# EAGLE library part PCA9536D (library PCA9536D)
REMOTE 4-BIT I2C AND SMBus I/O EXPANDER WITH CONFIGURATION REGISTERS
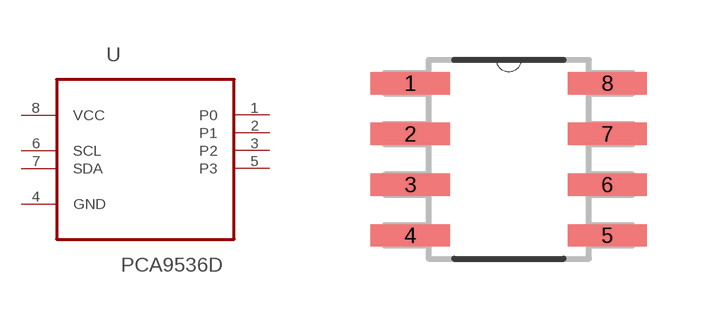
[diagram p0: symbol with the pads of SOIC127P600X175-8N; footprint SOIC127P600X175-8N]

Designator prefix U

## PCA9536D (Availability: Unavailable; Description: I/O Expander 4 I²C, SMBus 400kHz 8-SOIC; MF: Texas Instruments; MP: PCA9536D; Package: SOIC-8 NXP Semiconductors; Price: None)  [SOIC127P600X175-8N]
1  P0  out
2  P1  out
3  P2  out
4  GND  pas
5  P3  out
6  SCL  in
7  SDA  in
8  VCC  pwr

## Footprint SOIC127P600X175-8N (pad centres in mm)
smd 1.981 x 0.559: 1 -2.464,1.905; 2 -2.464,0.635; 3 -2.464,-0.635; 4 -2.464,-1.905; 5 2.464,-1.905; 6 2.464,-0.635; 7 2.464,0.635; 8 2.464,1.905